# Altium schematic symbol library Capacitors - Ceramic - 01005.SchLib: 571 symbols (part 5 of 13)
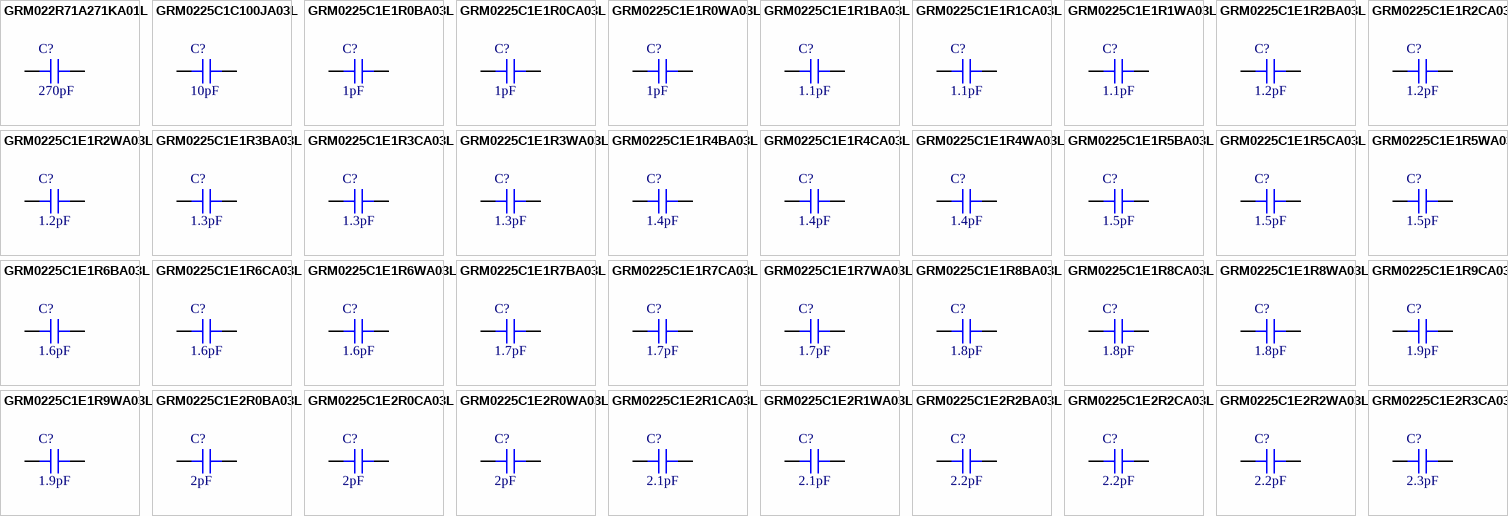
[diagram p18: symbols GRM022R71A271KA01L to GRM0225C1E2R3CA03L]

## GRM0225C1E1R9CA03L
designator C?, comment 1.9pF
CAP CER 1.9PF 25V C0G/NP0 01005; Part Number: GRM0225C1E1R9CA03L; Manufacturer: Murata Electronics; Temperature Coefficient: C0G, NP0; Tolerance: ±0.25pF; Value: 1.9pF; Applications: General Purpose; Capacitance: 1.9pF; ComponentLink1Description: Datasheet; ComponentLink1URL: https://search.murata.co.jp/Ceramy/image/img/A01X/G101/ENG/GRM0225C1E1R9CA03-01.pdf; ComponentLink2Description: DigiKey Link; ComponentLink2URL: http://digikey.com/product-detail/en/murata-electronics/GRM0225C1E1R9CA03L/490-13500-1-ND/6048242; Device Package: 01005 (0402 Metric); LastUpdated: 9/2/2020 1:27:44 AM; Lifecycle Status: Active; Minimum Order: 1; Mounting Type: Surface Mount, MLCC; Operating Temperature: -55°C ~ 125°C; Package / Case: 01005 (0402 Metric); Packaging: TapeAndReel; Part Status: Active; Price: 0.01; Series: GRM; Size / Dimension: 0.016" L x 0.008" W (0.40mm x 0.20mm); Supplier 1: DigiKey; Supplier Part Number 1: 490-13500-1-ND; Thickness (Max): 0.009" (0.22mm); Voltage - Rated: 25V
footprint CAP 01005_0402
pins: 1, 2

## GRM0225C1E1R9WA03L
designator C?, comment 1.9pF
CAP CER 1.9PF 25V C0G/NP0 01005; Part Number: GRM0225C1E1R9WA03L; Manufacturer: Murata Electronics; Temperature Coefficient: C0G, NP0; Tolerance: ±0.05pF; Value: 1.9pF; Applications: General Purpose; Capacitance: 1.9pF; ComponentLink1Description: Datasheet; ComponentLink1URL: https://search.murata.co.jp/Ceramy/image/img/A01X/G101/ENG/GRM0225C1E1R9WA03-01.pdf; ComponentLink2Description: DigiKey Link; ComponentLink2URL: http://digikey.com/product-detail/en/murata-electronics/GRM0225C1E1R9WA03L/490-13501-1-ND/6048243; Device Package: 01005 (0402 Metric); LastUpdated: 9/2/2020 1:27:42 AM; Lifecycle Status: Active; Minimum Order: 1; Mounting Type: Surface Mount, MLCC; Operating Temperature: -55°C ~ 125°C; Package / Case: 01005 (0402 Metric); Packaging: TapeAndReel; Part Status: Active; Price: 0.02; Series: GRM; Size / Dimension: 0.016" L x 0.008" W (0.40mm x 0.20mm); Supplier 1: DigiKey; Supplier Part Number 1: 490-13501-1-ND; Thickness (Max): 0.009" (0.22mm); Voltage - Rated: 25V
footprint CAP 01005_0402
pins: 1, 2

## GRM0225C1E2R0BA03L
designator C?, comment 2pF
CAP CER 2PF 25V C0G/NP0 01005; Part Number: GRM0225C1E2R0BA03L; Manufacturer: Murata Electronics; Temperature Coefficient: C0G, NP0; Tolerance: ±0.1pF; Value: 2pF; Applications: General Purpose; Capacitance: 2pF; ComponentLink1Description: Datasheet; ComponentLink1URL: https://search.murata.co.jp/Ceramy/image/img/A01X/G101/ENG/GRM0225C1E2R0BA03-01.pdf; ComponentLink2Description: DigiKey Link; ComponentLink2URL: http://digikey.com/product-detail/en/murata-electronics/GRM0225C1E2R0BA03L/490-13504-1-ND/6048246; Device Package: 01005 (0402 Metric); LastUpdated: 9/2/2020 1:27:44 AM; Lifecycle Status: Active; Minimum Order: 1; Mounting Type: Surface Mount, MLCC; Operating Temperature: -55°C ~ 125°C; Package / Case: 01005 (0402 Metric); Packaging: TapeAndReel; Part Status: Active; Price: 0.01; Series: GRM; Size / Dimension: 0.016" L x 0.008" W (0.40mm x 0.20mm); Supplier 1: DigiKey; Supplier Part Number 1: 490-13504-1-ND; Thickness (Max): 0.009" (0.22mm); Voltage - Rated: 25V
footprint CAP 01005_0402
pins: 1, 2

## GRM0225C1E2R0CA03L
designator C?, comment 2pF
CAP CER 2PF 25V C0G/NP0 01005; Part Number: GRM0225C1E2R0CA03L; Manufacturer: Murata Electronics; Temperature Coefficient: C0G, NP0; Tolerance: ±0.25pF; Value: 2pF; Applications: General Purpose; Capacitance: 2pF; ComponentLink1Description: Datasheet; ComponentLink1URL: https://search.murata.co.jp/Ceramy/image/img/A01X/G101/ENG/GRM0225C1E2R0CA03-01.pdf; ComponentLink2Description: DigiKey Link; ComponentLink2URL: http://digikey.com/product-detail/en/murata-electronics/GRM0225C1E2R0CA03L/490-13505-1-ND/6048247; Device Package: 01005 (0402 Metric); LastUpdated: 9/2/2020 1:27:44 AM; Lifecycle Status: Active; Minimum Order: 1; Mounting Type: Surface Mount, MLCC; Operating Temperature: -55°C ~ 125°C; Package / Case: 01005 (0402 Metric); Packaging: TapeAndReel; Part Status: Active; Price: 0.01; Series: GRM; Size / Dimension: 0.016" L x 0.008" W (0.40mm x 0.20mm); Supplier 1: DigiKey; Supplier Part Number 1: 490-13505-1-ND; Thickness (Max): 0.009" (0.22mm); Voltage - Rated: 25V
footprint CAP 01005_0402
pins: 1, 2

## GRM0225C1E2R0WA03L
designator C?, comment 2pF
CAP CER 2PF 25V C0G/NP0 01005; Part Number: GRM0225C1E2R0WA03L; Manufacturer: Murata Electronics; Temperature Coefficient: C0G, NP0; Tolerance: ±0.05pF; Value: 2pF; Applications: General Purpose; Capacitance: 2pF; ComponentLink1Description: Datasheet; ComponentLink1URL: https://search.murata.co.jp/Ceramy/image/img/A01X/G101/ENG/GRM0225C1E2R0WA03-01.pdf; ComponentLink2Description: DigiKey Link; ComponentLink2URL: http://digikey.com/product-detail/en/murata-electronics/GRM0225C1E2R0WA03L/490-13506-1-ND/6048248; Device Package: 01005 (0402 Metric); LastUpdated: 9/2/2020 1:27:42 AM; Lifecycle Status: Active; Minimum Order: 1; Mounting Type: Surface Mount, MLCC; Operating Temperature: -55°C ~ 125°C; Package / Case: 01005 (0402 Metric); Packaging: TapeAndReel; Part Status: Active; Price: 0.02; Series: GRM; Size / Dimension: 0.016" L x 0.008" W (0.40mm x 0.20mm); Supplier 1: DigiKey; Supplier Part Number 1: 490-13506-1-ND; Thickness (Max): 0.009" (0.22mm); Voltage - Rated: 25V
footprint CAP 01005_0402
pins: 1, 2

## GRM0225C1E2R1CA03L
designator C?, comment 2.1pF
CAP CER 2.1PF 25V C0G/NP0 01005; Part Number: GRM0225C1E2R1CA03L; Manufacturer: Murata Electronics; Temperature Coefficient: C0G, NP0; Tolerance: ±0.25pF; Value: 2.1pF; Applications: General Purpose; Capacitance: 2.1pF; ComponentLink1Description: Datasheet; ComponentLink1URL: https://search.murata.co.jp/Ceramy/image/img/A01X/G101/ENG/GRM0225C1E2R1CA03-01.pdf; ComponentLink2Description: DigiKey Link; ComponentLink2URL: http://digikey.com/product-detail/en/murata-electronics/GRM0225C1E2R1CA03L/490-13508-1-ND/6048250; Device Package: 01005 (0402 Metric); LastUpdated: 9/2/2020 1:27:44 AM; Lifecycle Status: Active; Minimum Order: 1; Mounting Type: Surface Mount, MLCC; Operating Temperature: -55°C ~ 125°C; Package / Case: 01005 (0402 Metric); Packaging: TapeAndReel; Part Status: Active; Price: 0.01; Series: GRM; Size / Dimension: 0.016" L x 0.008" W (0.40mm x 0.20mm); Supplier 1: DigiKey; Supplier Part Number 1: 490-13508-1-ND; Thickness (Max): 0.009" (0.22mm); Voltage - Rated: 25V
footprint CAP 01005_0402
pins: 1, 2

## GRM0225C1E2R1WA03L
designator C?, comment 2.1pF
CAP CER 2.1PF 25V C0G/NP0 01005; Part Number: GRM0225C1E2R1WA03L; Manufacturer: Murata Electronics; Temperature Coefficient: C0G, NP0; Tolerance: ±0.05pF; Value: 2.1pF; Applications: General Purpose; Capacitance: 2.1pF; ComponentLink1Description: Datasheet; ComponentLink1URL: https://www.murata.com/~/media/webrenewal/support/library/catalog/products/capacitor/mlcc/c02e.ashx?la=en-us; ComponentLink2Description: DigiKey Link; ComponentLink2URL: http://digikey.com/product-detail/en/murata-electronics/GRM0225C1E2R1WA03L/490-13509-1-ND/6048251; Device Package: 01005 (0402 Metric); LastUpdated: 9/2/2020 1:27:42 AM; Lifecycle Status: Active; Minimum Order: 1; Mounting Type: Surface Mount, MLCC; Operating Temperature: -55°C ~ 125°C; Package / Case: 01005 (0402 Metric); Packaging: TapeAndReel; Part Status: Active; Price: 0.02; Series: GRM; Size / Dimension: 0.016" L x 0.008" W (0.40mm x 0.20mm); Supplier 1: DigiKey; Supplier Part Number 1: 490-13509-1-ND; Thickness (Max): 0.009" (0.22mm); Voltage - Rated: 25V
footprint CAP 01005_0402
pins: 1, 2

## GRM0225C1E2R2BA03L
designator C?, comment 2.2pF
CAP CER 2.2PF 25V C0G/NP0 01005; Part Number: GRM0225C1E2R2BA03L; Manufacturer: Murata Electronics; Temperature Coefficient: C0G, NP0; Tolerance: ±0.1pF; Value: 2.2pF; Applications: General Purpose; Capacitance: 2.2pF; ComponentLink1Description: Datasheet; ComponentLink1URL: https://search.murata.co.jp/Ceramy/image/img/A01X/G101/ENG/GRM0225C1E2R2BA03-01.pdf; ComponentLink2Description: DigiKey Link; ComponentLink2URL: http://digikey.com/product-detail/en/murata-electronics/GRM0225C1E2R2BA03L/490-13510-1-ND/6048252; Device Package: 01005 (0402 Metric); LastUpdated: 9/2/2020 1:27:44 AM; Lifecycle Status: Active; Minimum Order: 1; Mounting Type: Surface Mount, MLCC; Operating Temperature: -55°C ~ 125°C; Package / Case: 01005 (0402 Metric); Packaging: TapeAndReel; Part Status: Active; Price: 0.01; Series: GRM; Size / Dimension: 0.016" L x 0.008" W (0.40mm x 0.20mm); Supplier 1: DigiKey; Supplier Part Number 1: 490-13510-1-ND; Thickness (Max): 0.009" (0.22mm); Voltage - Rated: 25V
footprint CAP 01005_0402
pins: 1, 2

## GRM0225C1E2R2CA03L
designator C?, comment 2.2pF
CAP CER 2.2PF 25V C0G/NP0 01005; Part Number: GRM0225C1E2R2CA03L; Manufacturer: Murata Electronics; Temperature Coefficient: C0G, NP0; Tolerance: ±0.25pF; Value: 2.2pF; Applications: General Purpose; Capacitance: 2.2pF; ComponentLink1Description: Datasheet; ComponentLink1URL: https://search.murata.co.jp/Ceramy/image/img/A01X/G101/ENG/GRM0225C1E2R2CA03-01.pdf; ComponentLink2Description: DigiKey Link; ComponentLink2URL: http://digikey.com/product-detail/en/murata-electronics/GRM0225C1E2R2CA03L/490-13511-1-ND/6048253; Device Package: 01005 (0402 Metric); LastUpdated: 9/2/2020 1:27:44 AM; Lifecycle Status: Active; Minimum Order: 1; Mounting Type: Surface Mount, MLCC; Operating Temperature: -55°C ~ 125°C; Package / Case: 01005 (0402 Metric); Packaging: TapeAndReel; Part Status: Active; Price: 0.01; Series: GRM; Size / Dimension: 0.016" L x 0.008" W (0.40mm x 0.20mm); Supplier 1: DigiKey; Supplier Part Number 1: 490-13511-1-ND; Thickness (Max): 0.009" (0.22mm); Voltage - Rated: 25V
footprint CAP 01005_0402
pins: 1, 2

## GRM0225C1E2R2WA03L
designator C?, comment 2.2pF
CAP CER 2.2PF 25V C0G/NP0 01005; Part Number: GRM0225C1E2R2WA03L; Manufacturer: Murata Electronics; Temperature Coefficient: C0G, NP0; Tolerance: ±0.05pF; Value: 2.2pF; Applications: General Purpose; Capacitance: 2.2pF; ComponentLink1Description: Datasheet; ComponentLink1URL: https://www.murata.com/~/media/webrenewal/support/library/catalog/products/capacitor/mlcc/c02e.ashx?la=en-us; ComponentLink2Description: DigiKey Link; ComponentLink2URL: http://digikey.com/product-detail/en/murata-electronics/GRM0225C1E2R2WA03L/490-13512-1-ND/6048254; Device Package: 01005 (0402 Metric); LastUpdated: 9/2/2020 1:27:42 AM; Lifecycle Status: Active; Minimum Order: 1; Mounting Type: Surface Mount, MLCC; Operating Temperature: -55°C ~ 125°C; Package / Case: 01005 (0402 Metric); Packaging: TapeAndReel; Part Status: Active; Price: 0.02; Series: GRM; Size / Dimension: 0.016" L x 0.008" W (0.40mm x 0.20mm); Supplier 1: DigiKey; Supplier Part Number 1: 490-13512-1-ND; Thickness (Max): 0.009" (0.22mm); Voltage - Rated: 25V
footprint CAP 01005_0402
pins: 1, 2

## GRM0225C1E2R3CA03L
designator C?, comment 2.3pF
CAP CER 2.3PF 25V C0G/NP0 01005; Part Number: GRM0225C1E2R3CA03L; Manufacturer: Murata Electronics; Temperature Coefficient: C0G, NP0; Tolerance: ±0.25pF; Value: 2.3pF; Applications: General Purpose; Capacitance: 2.3pF; ComponentLink1Description: Datasheet; ComponentLink1URL: https://search.murata.co.jp/Ceramy/image/img/A01X/G101/ENG/GRM0225C1E2R3CA03-01.pdf; ComponentLink2Description: DigiKey Link; ComponentLink2URL: http://digikey.com/product-detail/en/murata-electronics/GRM0225C1E2R3CA03L/490-13514-1-ND/6048256; Device Package: 01005 (0402 Metric); LastUpdated: 9/2/2020 1:27:44 AM; Lifecycle Status: Active; Minimum Order: 1; Mounting Type: Surface Mount, MLCC; Operating Temperature: -55°C ~ 125°C; Package / Case: 01005 (0402 Metric); Packaging: TapeAndReel; Part Status: Active; Price: 0.01; Series: GRM; Size / Dimension: 0.016" L x 0.008" W (0.40mm x 0.20mm); Supplier 1: DigiKey; Supplier Part Number 1: 490-13514-1-ND; Thickness (Max): 0.009" (0.22mm); Voltage - Rated: 25V
footprint CAP 01005_0402
pins: 1, 2

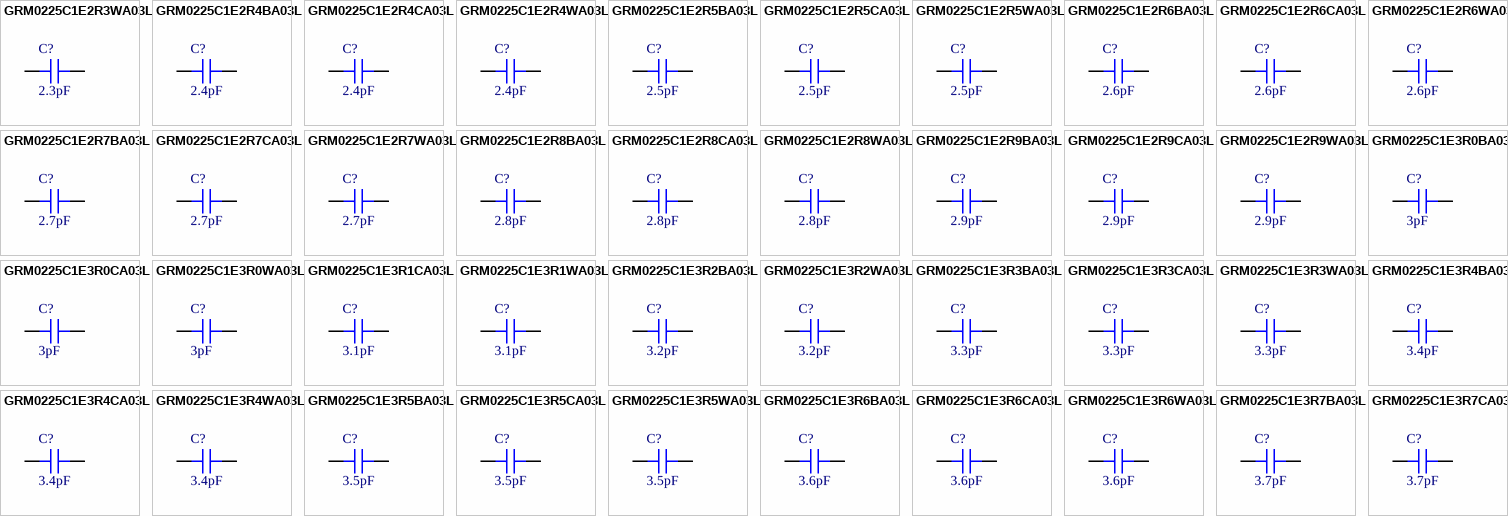
[diagram p5: symbols GRM0225C1E2R3WA03L to GRM0225C1E3R7CA03L]

## GRM0225C1E2R3WA03L
designator C?, comment 2.3pF
CAP CER 2.3PF 25V C0G/NP0 01005; Part Number: GRM0225C1E2R3WA03L; Manufacturer: Murata Electronics; Temperature Coefficient: C0G, NP0; Tolerance: ±0.05pF; Value: 2.3pF; Applications: General Purpose; Capacitance: 2.3pF; ComponentLink1Description: Datasheet; ComponentLink1URL: https://search.murata.co.jp/Ceramy/image/img/A01X/G101/ENG/GRM0225C1E2R3WA03-01.pdf; ComponentLink2Description: DigiKey Link; ComponentLink2URL: http://digikey.com/product-detail/en/murata-electronics/GRM0225C1E2R3WA03L/490-13515-1-ND/6048257; Device Package: 01005 (0402 Metric); LastUpdated: 9/2/2020 1:27:42 AM; Lifecycle Status: Active; Minimum Order: 1; Mounting Type: Surface Mount, MLCC; Operating Temperature: -55°C ~ 125°C; Package / Case: 01005 (0402 Metric); Packaging: TapeAndReel; Part Status: Active; Price: 0.02; Series: GRM; Size / Dimension: 0.016" L x 0.008" W (0.40mm x 0.20mm); Supplier 1: DigiKey; Supplier Part Number 1: 490-13515-1-ND; Thickness (Max): 0.009" (0.22mm); Voltage - Rated: 25V
footprint CAP 01005_0402
pins: 1, 2

## GRM0225C1E2R4BA03L
designator C?, comment 2.4pF
CAP CER 2.4PF 25V C0G/NP0 01005; Part Number: GRM0225C1E2R4BA03L; Manufacturer: Murata Electronics; Temperature Coefficient: C0G, NP0; Tolerance: ±0.1pF; Value: 2.4pF; Applications: General Purpose; Capacitance: 2.4pF; ComponentLink1Description: Datasheet; ComponentLink1URL: https://search.murata.co.jp/Ceramy/image/img/A01X/G101/ENG/GRM0225C1E2R4BA03-01.pdf; ComponentLink2Description: DigiKey Link; ComponentLink2URL: http://digikey.com/product-detail/en/murata-electronics/GRM0225C1E2R4BA03L/490-13516-1-ND/6048258; Device Package: 01005 (0402 Metric); LastUpdated: 9/2/2020 1:27:44 AM; Lifecycle Status: Active; Minimum Order: 1; Mounting Type: Surface Mount, MLCC; Operating Temperature: -55°C ~ 125°C; Package / Case: 01005 (0402 Metric); Packaging: TapeAndReel; Part Status: Active; Price: 0.01; Series: GRM; Size / Dimension: 0.016" L x 0.008" W (0.40mm x 0.20mm); Supplier 1: DigiKey; Supplier Part Number 1: 490-13516-1-ND; Thickness (Max): 0.009" (0.22mm); Voltage - Rated: 25V
footprint CAP 01005_0402
pins: 1, 2

## GRM0225C1E2R4CA03L
designator C?, comment 2.4pF
CAP CER 2.4PF 25V C0G/NP0 01005; Part Number: GRM0225C1E2R4CA03L; Manufacturer: Murata Electronics; Temperature Coefficient: C0G, NP0; Tolerance: ±0.25pF; Value: 2.4pF; Applications: General Purpose; Capacitance: 2.4pF; ComponentLink1Description: Datasheet; ComponentLink1URL: https://search.murata.co.jp/Ceramy/image/img/A01X/G101/ENG/GRM0225C1E2R4CA03-01.pdf; ComponentLink2Description: DigiKey Link; ComponentLink2URL: http://digikey.com/product-detail/en/murata-electronics/GRM0225C1E2R4CA03L/490-13517-1-ND/6048259; Device Package: 01005 (0402 Metric); LastUpdated: 9/2/2020 1:27:43 AM; Lifecycle Status: Active; Minimum Order: 1; Mounting Type: Surface Mount, MLCC; Operating Temperature: -55°C ~ 125°C; Package / Case: 01005 (0402 Metric); Packaging: TapeAndReel; Part Status: Active; Price: 0.01; Series: GRM; Size / Dimension: 0.016" L x 0.008" W (0.40mm x 0.20mm); Supplier 1: DigiKey; Supplier Part Number 1: 490-13517-1-ND; Thickness (Max): 0.009" (0.22mm); Voltage - Rated: 25V
footprint CAP 01005_0402
pins: 1, 2

## GRM0225C1E2R4WA03L
designator C?, comment 2.4pF
CAP CER 2.4PF 25V C0G/NP0 01005; Part Number: GRM0225C1E2R4WA03L; Manufacturer: Murata Electronics; Temperature Coefficient: C0G, NP0; Tolerance: ±0.05pF; Value: 2.4pF; Applications: General Purpose; Capacitance: 2.4pF; ComponentLink1Description: Datasheet; ComponentLink1URL: https://search.murata.co.jp/Ceramy/image/img/A01X/G101/ENG/GRM0225C1E2R4WA03-01.pdf; ComponentLink2Description: DigiKey Link; ComponentLink2URL: http://digikey.com/product-detail/en/murata-electronics/GRM0225C1E2R4WA03L/490-13518-1-ND/6048260; Device Package: 01005 (0402 Metric); LastUpdated: 9/2/2020 1:27:42 AM; Lifecycle Status: Active; Minimum Order: 1; Mounting Type: Surface Mount, MLCC; Operating Temperature: -55°C ~ 125°C; Package / Case: 01005 (0402 Metric); Packaging: TapeAndReel; Part Status: Active; Price: 0.02; Series: GRM; Size / Dimension: 0.016" L x 0.008" W (0.40mm x 0.20mm); Supplier 1: DigiKey; Supplier Part Number 1: 490-13518-1-ND; Thickness (Max): 0.009" (0.22mm); Voltage - Rated: 25V
footprint CAP 01005_0402
pins: 1, 2

## GRM0225C1E2R5BA03L
designator C?, comment 2.5pF
CAP CER 2.5PF 25V C0G/NP0 01005; Part Number: GRM0225C1E2R5BA03L; Manufacturer: Murata Electronics; Temperature Coefficient: C0G, NP0; Tolerance: ±0.1pF; Value: 2.5pF; Applications: General Purpose; Capacitance: 2.5pF; ComponentLink1Description: Datasheet; ComponentLink1URL: https://search.murata.co.jp/Ceramy/image/img/A01X/G101/ENG/GRM0225C1E2R5BA03-01.pdf; ComponentLink2Description: DigiKey Link; ComponentLink2URL: http://digikey.com/product-detail/en/murata-electronics/GRM0225C1E2R5BA03L/490-13519-1-ND/6048261; Device Package: 01005 (0402 Metric); LastUpdated: 9/2/2020 1:27:44 AM; Lifecycle Status: Active; Minimum Order: 1; Mounting Type: Surface Mount, MLCC; Operating Temperature: -55°C ~ 125°C; Package / Case: 01005 (0402 Metric); Packaging: TapeAndReel; Part Status: Active; Price: 0.01; Series: GRM; Size / Dimension: 0.016" L x 0.008" W (0.40mm x 0.20mm); Supplier 1: DigiKey; Supplier Part Number 1: 490-13519-1-ND; Thickness (Max): 0.009" (0.22mm); Voltage - Rated: 25V
footprint CAP 01005_0402
pins: 1, 2

## GRM0225C1E2R5CA03L
designator C?, comment 2.5pF
CAP CER 2.5PF 25V C0G/NP0 01005; Part Number: GRM0225C1E2R5CA03L; Manufacturer: Murata Electronics; Temperature Coefficient: C0G, NP0; Tolerance: ±0.25pF; Value: 2.5pF; Applications: General Purpose; Capacitance: 2.5pF; ComponentLink1Description: Datasheet; ComponentLink1URL: https://search.murata.co.jp/Ceramy/image/img/A01X/G101/ENG/GRM0225C1E2R5CA03-01.pdf; ComponentLink2Description: DigiKey Link; ComponentLink2URL: http://digikey.com/product-detail/en/murata-electronics/GRM0225C1E2R5CA03L/490-13520-1-ND/6048262; Device Package: 01005 (0402 Metric); LastUpdated: 9/2/2020 1:27:44 AM; Lifecycle Status: Active; Minimum Order: 1; Mounting Type: Surface Mount, MLCC; Operating Temperature: -55°C ~ 125°C; Package / Case: 01005 (0402 Metric); Packaging: TapeAndReel; Part Status: Active; Price: 0.01; Series: GRM; Size / Dimension: 0.016" L x 0.008" W (0.40mm x 0.20mm); Supplier 1: DigiKey; Supplier Part Number 1: 490-13520-1-ND; Thickness (Max): 0.009" (0.22mm); Voltage - Rated: 25V
footprint CAP 01005_0402
pins: 1, 2

## GRM0225C1E2R5WA03L
designator C?, comment 2.5pF
CAP CER 2.5PF 25V C0G/NP0 01005; Part Number: GRM0225C1E2R5WA03L; Manufacturer: Murata Electronics; Temperature Coefficient: C0G, NP0; Tolerance: ±0.05pF; Value: 2.5pF; Applications: General Purpose; Capacitance: 2.5pF; ComponentLink1Description: Datasheet; ComponentLink1URL: https://search.murata.co.jp/Ceramy/image/img/A01X/G101/ENG/GRM0225C1E2R5WA03-01.pdf; ComponentLink2Description: DigiKey Link; ComponentLink2URL: http://digikey.com/product-detail/en/murata-electronics/GRM0225C1E2R5WA03L/490-13521-1-ND/6048263; Device Package: 01005 (0402 Metric); LastUpdated: 9/2/2020 1:27:42 AM; Lifecycle Status: Active; Minimum Order: 1; Mounting Type: Surface Mount, MLCC; Operating Temperature: -55°C ~ 125°C; Package / Case: 01005 (0402 Metric); Packaging: TapeAndReel; Part Status: Active; Price: 0.02; Series: GRM; Size / Dimension: 0.016" L x 0.008" W (0.40mm x 0.20mm); Supplier 1: DigiKey; Supplier Part Number 1: 490-13521-1-ND; Thickness (Max): 0.009" (0.22mm); Voltage - Rated: 25V
footprint CAP 01005_0402
pins: 1, 2

## GRM0225C1E2R6BA03L
designator C?, comment 2.6pF
CAP CER 2.6PF 25V C0G/NP0 01005; Part Number: GRM0225C1E2R6BA03L; Manufacturer: Murata Electronics; Temperature Coefficient: C0G, NP0; Tolerance: ±0.1pF; Value: 2.6pF; Applications: General Purpose; Capacitance: 2.6pF; ComponentLink1Description: Datasheet; ComponentLink1URL: https://search.murata.co.jp/Ceramy/image/img/A01X/G101/ENG/GRM0225C1E2R6BA03-01.pdf; ComponentLink2Description: DigiKey Link; ComponentLink2URL: http://digikey.com/product-detail/en/murata-electronics/GRM0225C1E2R6BA03L/490-13522-1-ND/6048264; Device Package: 01005 (0402 Metric); LastUpdated: 9/2/2020 1:27:44 AM; Lifecycle Status: Active; Minimum Order: 1; Mounting Type: Surface Mount, MLCC; Operating Temperature: -55°C ~ 125°C; Package / Case: 01005 (0402 Metric); Packaging: TapeAndReel; Part Status: Active; Price: 0.01; Series: GRM; Size / Dimension: 0.016" L x 0.008" W (0.40mm x 0.20mm); Supplier 1: DigiKey; Supplier Part Number 1: 490-13522-1-ND; Thickness (Max): 0.009" (0.22mm); Voltage - Rated: 25V
footprint CAP 01005_0402
pins: 1, 2

## GRM0225C1E2R6CA03L
designator C?, comment 2.6pF
CAP CER 2.6PF 25V C0G/NP0 01005; Part Number: GRM0225C1E2R6CA03L; Manufacturer: Murata Electronics; Temperature Coefficient: C0G, NP0; Tolerance: ±0.25pF; Value: 2.6pF; Applications: General Purpose; Capacitance: 2.6pF; ComponentLink1Description: Datasheet; ComponentLink1URL: https://search.murata.co.jp/Ceramy/image/img/A01X/G101/ENG/GRM0225C1E2R6CA03-01.pdf; ComponentLink2Description: DigiKey Link; ComponentLink2URL: http://digikey.com/product-detail/en/murata-electronics/GRM0225C1E2R6CA03L/490-13523-1-ND/6048265; Device Package: 01005 (0402 Metric); LastUpdated: 9/2/2020 1:27:44 AM; Lifecycle Status: Active; Minimum Order: 1; Mounting Type: Surface Mount, MLCC; Operating Temperature: -55°C ~ 125°C; Package / Case: 01005 (0402 Metric); Packaging: TapeAndReel; Part Status: Active; Price: 0.01; Series: GRM; Size / Dimension: 0.016" L x 0.008" W (0.40mm x 0.20mm); Supplier 1: DigiKey; Supplier Part Number 1: 490-13523-1-ND; Thickness (Max): 0.009" (0.22mm); Voltage - Rated: 25V
footprint CAP 01005_0402
pins: 1, 2

## GRM0225C1E2R6WA03L
designator C?, comment 2.6pF
CAP CER 2.6PF 25V C0G/NP0 01005; Part Number: GRM0225C1E2R6WA03L; Manufacturer: Murata Electronics; Temperature Coefficient: C0G, NP0; Tolerance: ±0.05pF; Value: 2.6pF; Applications: General Purpose; Capacitance: 2.6pF; ComponentLink1Description: Datasheet; ComponentLink1URL: https://search.murata.co.jp/Ceramy/image/img/A01X/G101/ENG/GRM0225C1E2R6WA03-01.pdf; ComponentLink2Description: DigiKey Link; ComponentLink2URL: http://digikey.com/product-detail/en/murata-electronics/GRM0225C1E2R6WA03L/490-13524-1-ND/6048266; Device Package: 01005 (0402 Metric); LastUpdated: 9/2/2020 1:27:42 AM; Lifecycle Status: Active; Minimum Order: 1; Mounting Type: Surface Mount, MLCC; Operating Temperature: -55°C ~ 125°C; Package / Case: 01005 (0402 Metric); Packaging: TapeAndReel; Part Status: Active; Price: 0.02; Series: GRM; Size / Dimension: 0.016" L x 0.008" W (0.40mm x 0.20mm); Supplier 1: DigiKey; Supplier Part Number 1: 490-13524-1-ND; Thickness (Max): 0.009" (0.22mm); Voltage - Rated: 25V
footprint CAP 01005_0402
pins: 1, 2

## GRM0225C1E2R7BA03L
designator C?, comment 2.7pF
CAP CER 2.7PF 25V C0G/NP0 01005; Part Number: GRM0225C1E2R7BA03L; Manufacturer: Murata Electronics; Temperature Coefficient: C0G, NP0; Tolerance: ±0.1pF; Value: 2.7pF; Applications: General Purpose; Capacitance: 2.7pF; ComponentLink1Description: Datasheet; ComponentLink1URL: https://www.murata.com/~/media/webrenewal/support/library/catalog/products/capacitor/mlcc/c02e.ashx?la=en-us; ComponentLink2Description: DigiKey Link; ComponentLink2URL: http://digikey.com/product-detail/en/murata-electronics/GRM0225C1E2R7BA03L/490-13525-1-ND/6048267; Device Package: 01005 (0402 Metric); LastUpdated: 9/2/2020 1:27:43 AM; Lifecycle Status: Active; Minimum Order: 1; Mounting Type: Surface Mount, MLCC; Operating Temperature: -55°C ~ 125°C; Package / Case: 01005 (0402 Metric); Packaging: TapeAndReel; Part Status: Active; Price: 0.01; Series: GRM; Size / Dimension: 0.016" L x 0.008" W (0.40mm x 0.20mm); Supplier 1: DigiKey; Supplier Part Number 1: 490-13525-1-ND; Thickness (Max): 0.009" (0.22mm); Voltage - Rated: 25V
footprint CAP 01005_0402
pins: 1, 2

## GRM0225C1E2R7CA03L
designator C?, comment 2.7pF
CAP CER 2.7PF 25V C0G/NP0 01005; Part Number: GRM0225C1E2R7CA03L; Manufacturer: Murata Electronics; Temperature Coefficient: C0G, NP0; Tolerance: ±0.25pF; Value: 2.7pF; Applications: General Purpose; Capacitance: 2.7pF; ComponentLink1Description: Datasheet; ComponentLink1URL: https://search.murata.co.jp/Ceramy/image/img/A01X/G101/ENG/GRM0225C1E2R7CA03-01.pdf; ComponentLink2Description: DigiKey Link; ComponentLink2URL: http://digikey.com/product-detail/en/murata-electronics/GRM0225C1E2R7CA03L/490-13526-1-ND/6048268; Device Package: 01005 (0402 Metric); LastUpdated: 9/2/2020 1:27:44 AM; Lifecycle Status: Active; Minimum Order: 1; Mounting Type: Surface Mount, MLCC; Operating Temperature: -55°C ~ 125°C; Package / Case: 01005 (0402 Metric); Packaging: TapeAndReel; Part Status: Active; Price: 0.01; Series: GRM; Size / Dimension: 0.016" L x 0.008" W (0.40mm x 0.20mm); Supplier 1: DigiKey; Supplier Part Number 1: 490-13526-1-ND; Thickness (Max): 0.009" (0.22mm); Voltage - Rated: 25V
footprint CAP 01005_0402
pins: 1, 2

## GRM0225C1E2R7WA03L
designator C?, comment 2.7pF
CAP CER 2.7PF 25V C0G/NP0 01005; Part Number: GRM0225C1E2R7WA03L; Manufacturer: Murata Electronics; Temperature Coefficient: C0G, NP0; Tolerance: ±0.05pF; Value: 2.7pF; Applications: General Purpose; Capacitance: 2.7pF; ComponentLink1Description: Datasheet; ComponentLink1URL: https://search.murata.co.jp/Ceramy/image/img/A01X/G101/ENG/GRM0225C1E2R7WA03-01.pdf; ComponentLink2Description: DigiKey Link; ComponentLink2URL: http://digikey.com/product-detail/en/murata-electronics/GRM0225C1E2R7WA03L/490-13527-1-ND/6048269; Device Package: 01005 (0402 Metric); LastUpdated: 9/2/2020 1:27:42 AM; Lifecycle Status: Active; Minimum Order: 1; Mounting Type: Surface Mount, MLCC; Operating Temperature: -55°C ~ 125°C; Package / Case: 01005 (0402 Metric); Packaging: TapeAndReel; Part Status: Active; Price: 0.02; Series: GRM; Size / Dimension: 0.016" L x 0.008" W (0.40mm x 0.20mm); Supplier 1: DigiKey; Supplier Part Number 1: 490-13527-1-ND; Thickness (Max): 0.009" (0.22mm); Voltage - Rated: 25V
footprint CAP 01005_0402
pins: 1, 2

## GRM0225C1E2R8BA03L
designator C?, comment 2.8pF
CAP CER 2.8PF 25V C0G/NP0 01005; Part Number: GRM0225C1E2R8BA03L; Manufacturer: Murata Electronics; Temperature Coefficient: C0G, NP0; Tolerance: ±0.1pF; Value: 2.8pF; Applications: General Purpose; Capacitance: 2.8pF; ComponentLink1Description: Datasheet; ComponentLink1URL: https://search.murata.co.jp/Ceramy/image/img/A01X/G101/ENG/GRM0225C1E2R8BA03-01.pdf; ComponentLink2Description: DigiKey Link; ComponentLink2URL: http://digikey.com/product-detail/en/murata-electronics/GRM0225C1E2R8BA03L/490-13528-1-ND/6048270; Device Package: 01005 (0402 Metric); LastUpdated: 9/2/2020 1:27:44 AM; Lifecycle Status: Active; Minimum Order: 1; Mounting Type: Surface Mount, MLCC; Operating Temperature: -55°C ~ 125°C; Package / Case: 01005 (0402 Metric); Packaging: TapeAndReel; Part Status: Active; Price: 0.01; Series: GRM; Size / Dimension: 0.016" L x 0.008" W (0.40mm x 0.20mm); Supplier 1: DigiKey; Supplier Part Number 1: 490-13528-1-ND; Thickness (Max): 0.009" (0.22mm); Voltage - Rated: 25V
footprint CAP 01005_0402
pins: 1, 2

## GRM0225C1E2R8CA03L
designator C?, comment 2.8pF
CAP CER 2.8PF 25V C0G/NP0 01005; Part Number: GRM0225C1E2R8CA03L; Manufacturer: Murata Electronics; Temperature Coefficient: C0G, NP0; Tolerance: ±0.25pF; Value: 2.8pF; Applications: General Purpose; Capacitance: 2.8pF; ComponentLink1Description: Datasheet; ComponentLink1URL: https://search.murata.co.jp/Ceramy/image/img/A01X/G101/ENG/GRM0225C1E2R8CA03-01.pdf; ComponentLink2Description: DigiKey Link; ComponentLink2URL: http://digikey.com/product-detail/en/murata-electronics/GRM0225C1E2R8CA03L/490-13529-1-ND/6048271; Device Package: 01005 (0402 Metric); LastUpdated: 9/2/2020 1:27:44 AM; Lifecycle Status: Active; Minimum Order: 1; Mounting Type: Surface Mount, MLCC; Operating Temperature: -55°C ~ 125°C; Package / Case: 01005 (0402 Metric); Packaging: TapeAndReel; Part Status: Active; Price: 0.01; Series: GRM; Size / Dimension: 0.016" L x 0.008" W (0.40mm x 0.20mm); Supplier 1: DigiKey; Supplier Part Number 1: 490-13529-1-ND; Thickness (Max): 0.009" (0.22mm); Voltage - Rated: 25V
footprint CAP 01005_0402
pins: 1, 2

## GRM0225C1E2R8WA03L
designator C?, comment 2.8pF
CAP CER 2.8PF 25V C0G/NP0 01005; Part Number: GRM0225C1E2R8WA03L; Manufacturer: Murata Electronics; Temperature Coefficient: C0G, NP0; Tolerance: ±0.05pF; Value: 2.8pF; Applications: General Purpose; Capacitance: 2.8pF; ComponentLink1Description: Datasheet; ComponentLink1URL: https://search.murata.co.jp/Ceramy/image/img/A01X/G101/ENG/GRM0225C1E2R8WA03-01.pdf; ComponentLink2Description: DigiKey Link; ComponentLink2URL: http://digikey.com/product-detail/en/murata-electronics/GRM0225C1E2R8WA03L/490-13530-1-ND/6048272; Device Package: 01005 (0402 Metric); LastUpdated: 9/2/2020 1:27:42 AM; Lifecycle Status: Active; Minimum Order: 1; Mounting Type: Surface Mount, MLCC; Operating Temperature: -55°C ~ 125°C; Package / Case: 01005 (0402 Metric); Packaging: TapeAndReel; Part Status: Active; Price: 0.02; Series: GRM; Size / Dimension: 0.016" L x 0.008" W (0.40mm x 0.20mm); Supplier 1: DigiKey; Supplier Part Number 1: 490-13530-1-ND; Thickness (Max): 0.009" (0.22mm); Voltage - Rated: 25V
footprint CAP 01005_0402
pins: 1, 2

## GRM0225C1E2R9BA03L
designator C?, comment 2.9pF
CAP CER 2.9PF 25V C0G/NP0 01005; Part Number: GRM0225C1E2R9BA03L; Manufacturer: Murata Electronics; Temperature Coefficient: C0G, NP0; Tolerance: ±0.1pF; Value: 2.9pF; Applications: General Purpose; Capacitance: 2.9pF; ComponentLink1Description: Datasheet; ComponentLink1URL: https://search.murata.co.jp/Ceramy/image/img/A01X/G101/ENG/GRM0225C1E2R9BA03-01.pdf; ComponentLink2Description: DigiKey Link; ComponentLink2URL: http://digikey.com/product-detail/en/murata-electronics/GRM0225C1E2R9BA03L/490-13531-1-ND/6048273; Device Package: 01005 (0402 Metric); LastUpdated: 9/2/2020 1:27:44 AM; Lifecycle Status: Active; Minimum Order: 1; Mounting Type: Surface Mount, MLCC; Operating Temperature: -55°C ~ 125°C; Package / Case: 01005 (0402 Metric); Packaging: TapeAndReel; Part Status: Active; Price: 0.01; Series: GRM; Size / Dimension: 0.016" L x 0.008" W (0.40mm x 0.20mm); Supplier 1: DigiKey; Supplier Part Number 1: 490-13531-1-ND; Thickness (Max): 0.009" (0.22mm); Voltage - Rated: 25V
footprint CAP 01005_0402
pins: 1, 2

## GRM0225C1E2R9CA03L
designator C?, comment 2.9pF
CAP CER 2.9PF 25V C0G/NP0 01005; Part Number: GRM0225C1E2R9CA03L; Manufacturer: Murata Electronics; Temperature Coefficient: C0G, NP0; Tolerance: ±0.25pF; Value: 2.9pF; Applications: General Purpose; Capacitance: 2.9pF; ComponentLink1Description: Datasheet; ComponentLink1URL: https://search.murata.co.jp/Ceramy/image/img/A01X/G101/ENG/GRM0225C1E2R9CA03-01.pdf; ComponentLink2Description: DigiKey Link; ComponentLink2URL: http://digikey.com/product-detail/en/murata-electronics/GRM0225C1E2R9CA03L/490-13532-1-ND/6048274; Device Package: 01005 (0402 Metric); LastUpdated: 9/2/2020 1:27:44 AM; Lifecycle Status: Active; Minimum Order: 1; Mounting Type: Surface Mount, MLCC; Operating Temperature: -55°C ~ 125°C; Package / Case: 01005 (0402 Metric); Packaging: TapeAndReel; Part Status: Active; Price: 0.01; Series: GRM; Size / Dimension: 0.016" L x 0.008" W (0.40mm x 0.20mm); Supplier 1: DigiKey; Supplier Part Number 1: 490-13532-1-ND; Thickness (Max): 0.009" (0.22mm); Voltage - Rated: 25V
footprint CAP 01005_0402
pins: 1, 2

## GRM0225C1E2R9WA03L
designator C?, comment 2.9pF
CAP CER 2.9PF 25V C0G/NP0 01005; Part Number: GRM0225C1E2R9WA03L; Manufacturer: Murata Electronics; Temperature Coefficient: C0G, NP0; Tolerance: ±0.05pF; Value: 2.9pF; Applications: General Purpose; Capacitance: 2.9pF; ComponentLink1Description: Datasheet; ComponentLink1URL: https://www.murata.com/~/media/webrenewal/support/library/catalog/products/capacitor/mlcc/c02e.ashx?la=en-us; ComponentLink2Description: DigiKey Link; ComponentLink2URL: http://digikey.com/product-detail/en/murata-electronics/GRM0225C1E2R9WA03L/490-13533-1-ND/6048275; Device Package: 01005 (0402 Metric); LastUpdated: 9/2/2020 1:27:42 AM; Lifecycle Status: Active; Minimum Order: 1; Mounting Type: Surface Mount, MLCC; Operating Temperature: -55°C ~ 125°C; Package / Case: 01005 (0402 Metric); Packaging: TapeAndReel; Part Status: Active; Price: 0.02; Series: GRM; Size / Dimension: 0.016" L x 0.008" W (0.40mm x 0.20mm); Supplier 1: DigiKey; Supplier Part Number 1: 490-13533-1-ND; Thickness (Max): 0.009" (0.22mm); Voltage - Rated: 25V
footprint CAP 01005_0402
pins: 1, 2

## GRM0225C1E3R0BA03L
designator C?, comment 3pF
CAP CER 3PF 25V C0G/NP0 01005; Part Number: GRM0225C1E3R0BA03L; Manufacturer: Murata Electronics; Temperature Coefficient: C0G, NP0; Tolerance: ±0.1pF; Value: 3pF; Applications: General Purpose; Capacitance: 3pF; ComponentLink1Description: Datasheet; ComponentLink1URL: https://search.murata.co.jp/Ceramy/image/img/A01X/G101/ENG/GRM0225C1E3R0BA03-01.pdf; ComponentLink2Description: DigiKey Link; ComponentLink2URL: http://digikey.com/product-detail/en/murata-electronics/GRM0225C1E3R0BA03L/490-13534-1-ND/6048276; Device Package: 01005 (0402 Metric); LastUpdated: 9/2/2020 1:27:44 AM; Lifecycle Status: Active; Minimum Order: 1; Mounting Type: Surface Mount, MLCC; Operating Temperature: -55°C ~ 125°C; Package / Case: 01005 (0402 Metric); Packaging: TapeAndReel; Part Status: Active; Price: 0.01; Series: GRM; Size / Dimension: 0.016" L x 0.008" W (0.40mm x 0.20mm); Supplier 1: DigiKey; Supplier Part Number 1: 490-13534-1-ND; Thickness (Max): 0.009" (0.22mm); Voltage - Rated: 25V
footprint CAP 01005_0402
pins: 1, 2

## GRM0225C1E3R0CA03L
designator C?, comment 3pF
CAP CER 3PF 25V C0G/NP0 01005; Part Number: GRM0225C1E3R0CA03L; Manufacturer: Murata Electronics; Temperature Coefficient: C0G, NP0; Tolerance: ±0.25pF; Value: 3pF; Applications: General Purpose; Capacitance: 3pF; ComponentLink1Description: Datasheet; ComponentLink1URL: https://search.murata.co.jp/Ceramy/image/img/A01X/G101/ENG/GRM0225C1E3R0CA03-01.pdf; ComponentLink2Description: DigiKey Link; ComponentLink2URL: http://digikey.com/product-detail/en/murata-electronics/GRM0225C1E3R0CA03L/490-13535-1-ND/6048277; Device Package: 01005 (0402 Metric); LastUpdated: 9/2/2020 1:27:42 AM; Lifecycle Status: Active; Minimum Order: 1; Mounting Type: Surface Mount, MLCC; Operating Temperature: -55°C ~ 125°C; Package / Case: 01005 (0402 Metric); Packaging: TapeAndReel; Part Status: Active; Price: 0.01; Series: GRM; Size / Dimension: 0.016" L x 0.008" W (0.40mm x 0.20mm); Supplier 1: DigiKey; Supplier Part Number 1: 490-13535-1-ND; Thickness (Max): 0.009" (0.22mm); Voltage - Rated: 25V
footprint CAP 01005_0402
pins: 1, 2

## GRM0225C1E3R0WA03L
designator C?, comment 3pF
CAP CER 3PF 25V C0G/NP0 01005; Part Number: GRM0225C1E3R0WA03L; Manufacturer: Murata Electronics; Temperature Coefficient: C0G, NP0; Tolerance: ±0.05pF; Value: 3pF; Applications: General Purpose; Capacitance: 3pF; ComponentLink1Description: Datasheet; ComponentLink1URL: https://search.murata.co.jp/Ceramy/image/img/A01X/G101/ENG/GRM0225C1E3R0WA03-01.pdf; ComponentLink2Description: DigiKey Link; ComponentLink2URL: http://digikey.com/product-detail/en/murata-electronics/GRM0225C1E3R0WA03L/490-13536-1-ND/6048278; Device Package: 01005 (0402 Metric); LastUpdated: 9/2/2020 1:27:42 AM; Lifecycle Status: Active; Minimum Order: 1; Mounting Type: Surface Mount, MLCC; Operating Temperature: -55°C ~ 125°C; Package / Case: 01005 (0402 Metric); Packaging: TapeAndReel; Part Status: Active; Price: 0.02; Series: GRM; Size / Dimension: 0.016" L x 0.008" W (0.40mm x 0.20mm); Supplier 1: DigiKey; Supplier Part Number 1: 490-13536-1-ND; Thickness (Max): 0.009" (0.22mm); Voltage - Rated: 25V
footprint CAP 01005_0402
pins: 1, 2

## GRM0225C1E3R1CA03L
designator C?, comment 3.1pF
CAP CER 3.1PF 25V C0G/NP0 01005; Part Number: GRM0225C1E3R1CA03L; Manufacturer: Murata Electronics; Temperature Coefficient: C0G, NP0; Tolerance: ±0.25pF; Value: 3.1pF; Applications: General Purpose; Capacitance: 3.1pF; ComponentLink1Description: Datasheet; ComponentLink1URL: https://search.murata.co.jp/Ceramy/image/img/A01X/G101/ENG/GRM0225C1E3R1CA03-01.pdf; ComponentLink2Description: DigiKey Link; ComponentLink2URL: http://digikey.com/product-detail/en/murata-electronics/GRM0225C1E3R1CA03L/490-13538-1-ND/6048280; Device Package: 01005 (0402 Metric); LastUpdated: 9/2/2020 1:27:44 AM; Lifecycle Status: Active; Minimum Order: 1; Mounting Type: Surface Mount, MLCC; Operating Temperature: -55°C ~ 125°C; Package / Case: 01005 (0402 Metric); Packaging: TapeAndReel; Part Status: Active; Price: 0.01; Series: GRM; Size / Dimension: 0.016" L x 0.008" W (0.40mm x 0.20mm); Supplier 1: DigiKey; Supplier Part Number 1: 490-13538-1-ND; Thickness (Max): 0.009" (0.22mm); Voltage - Rated: 25V
footprint CAP 01005_0402
pins: 1, 2

## GRM0225C1E3R1WA03L
designator C?, comment 3.1pF
CAP CER 3.1PF 25V C0G/NP0 01005; Part Number: GRM0225C1E3R1WA03L; Manufacturer: Murata Electronics; Temperature Coefficient: C0G, NP0; Tolerance: ±0.05pF; Value: 3.1pF; Applications: General Purpose; Capacitance: 3.1pF; ComponentLink1Description: Datasheet; ComponentLink1URL: https://search.murata.co.jp/Ceramy/image/img/A01X/G101/ENG/GRM0225C1E3R1WA03-01.pdf; ComponentLink2Description: DigiKey Link; ComponentLink2URL: http://digikey.com/product-detail/en/murata-electronics/GRM0225C1E3R1WA03L/490-13539-1-ND/6048281; Device Package: 01005 (0402 Metric); LastUpdated: 9/2/2020 1:27:42 AM; Lifecycle Status: Active; Minimum Order: 1; Mounting Type: Surface Mount, MLCC; Operating Temperature: -55°C ~ 125°C; Package / Case: 01005 (0402 Metric); Packaging: TapeAndReel; Part Status: Active; Price: 0.02; Series: GRM; Size / Dimension: 0.016" L x 0.008" W (0.40mm x 0.20mm); Supplier 1: DigiKey; Supplier Part Number 1: 490-13539-1-ND; Thickness (Max): 0.009" (0.22mm); Voltage - Rated: 25V
footprint CAP 01005_0402
pins: 1, 2

## GRM0225C1E3R2BA03L
designator C?, comment 3.2pF
CAP CER 3.2PF 25V C0G/NP0 01005; Part Number: GRM0225C1E3R2BA03L; Manufacturer: Murata Electronics; Temperature Coefficient: C0G, NP0; Tolerance: ±0.1pF; Value: 3.2pF; Applications: General Purpose; Capacitance: 3.2pF; ComponentLink1Description: Datasheet; ComponentLink1URL: https://www.murata.com/~/media/webrenewal/support/library/catalog/products/capacitor/mlcc/c02e.ashx?la=en-us; ComponentLink2Description: DigiKey Link; ComponentLink2URL: http://digikey.com/product-detail/en/murata-electronics/GRM0225C1E3R2BA03L/490-13540-1-ND/6048282; Device Package: 01005 (0402 Metric); LastUpdated: 9/2/2020 1:27:44 AM; Lifecycle Status: Active; Minimum Order: 1; Mounting Type: Surface Mount, MLCC; Operating Temperature: -55°C ~ 125°C; Package / Case: 01005 (0402 Metric); Packaging: TapeAndReel; Part Status: Active; Price: 0.01; Series: GRM; Size / Dimension: 0.016" L x 0.008" W (0.40mm x 0.20mm); Supplier 1: DigiKey; Supplier Part Number 1: 490-13540-1-ND; Thickness (Max): 0.009" (0.22mm); Voltage - Rated: 25V
footprint CAP 01005_0402
pins: 1, 2

## GRM0225C1E3R2WA03L
designator C?, comment 3.2pF
CAP CER 3.2PF 25V C0G/NP0 01005; Part Number: GRM0225C1E3R2WA03L; Manufacturer: Murata Electronics; Temperature Coefficient: C0G, NP0; Tolerance: ±0.05pF; Value: 3.2pF; Applications: General Purpose; Capacitance: 3.2pF; ComponentLink1Description: Datasheet; ComponentLink1URL: https://search.murata.co.jp/Ceramy/image/img/A01X/G101/ENG/GRM0225C1E3R2WA03-01.pdf; ComponentLink2Description: DigiKey Link; ComponentLink2URL: http://digikey.com/product-detail/en/murata-electronics/GRM0225C1E3R2WA03L/490-13542-1-ND/6048284; Device Package: 01005 (0402 Metric); LastUpdated: 9/2/2020 1:27:42 AM; Lifecycle Status: Active; Minimum Order: 1; Mounting Type: Surface Mount, MLCC; Operating Temperature: -55°C ~ 125°C; Package / Case: 01005 (0402 Metric); Packaging: TapeAndReel; Part Status: Active; Price: 0.02; Series: GRM; Size / Dimension: 0.016" L x 0.008" W (0.40mm x 0.20mm); Supplier 1: DigiKey; Supplier Part Number 1: 490-13542-1-ND; Thickness (Max): 0.009" (0.22mm); Voltage - Rated: 25V
footprint CAP 01005_0402
pins: 1, 2

## GRM0225C1E3R3BA03L
designator C?, comment 3.3pF
CAP CER 3.3PF 25V C0G/NP0 01005; Part Number: GRM0225C1E3R3BA03L; Manufacturer: Murata Electronics; Temperature Coefficient: C0G, NP0; Tolerance: ±0.1pF; Value: 3.3pF; Applications: General Purpose; Capacitance: 3.3pF; ComponentLink1Description: Datasheet; ComponentLink1URL: https://search.murata.co.jp/Ceramy/image/img/A01X/G101/ENG/GRM0225C1E3R3BA03-01.pdf; ComponentLink2Description: DigiKey Link; ComponentLink2URL: http://digikey.com/product-detail/en/murata-electronics/GRM0225C1E3R3BA03L/490-13543-1-ND/6048285; Device Package: 01005 (0402 Metric); LastUpdated: 9/2/2020 1:27:44 AM; Lifecycle Status: Active; Minimum Order: 1; Mounting Type: Surface Mount, MLCC; Operating Temperature: -55°C ~ 125°C; Package / Case: 01005 (0402 Metric); Packaging: TapeAndReel; Part Status: Active; Price: 0.01; Series: GRM; Size / Dimension: 0.016" L x 0.008" W (0.40mm x 0.20mm); Supplier 1: DigiKey; Supplier Part Number 1: 490-13543-1-ND; Thickness (Max): 0.009" (0.22mm); Voltage - Rated: 25V
footprint CAP 01005_0402
pins: 1, 2

## GRM0225C1E3R3CA03L
designator C?, comment 3.3pF
CAP CER 3.3PF 25V C0G/NP0 01005; Part Number: GRM0225C1E3R3CA03L; Manufacturer: Murata Electronics; Temperature Coefficient: C0G, NP0; Tolerance: ±0.25pF; Value: 3.3pF; Applications: General Purpose; Capacitance: 3.3pF; ComponentLink1Description: Datasheet; ComponentLink1URL: https://search.murata.co.jp/Ceramy/image/img/A01X/G101/ENG/GRM0225C1E3R3CA03-01.pdf; ComponentLink2Description: DigiKey Link; ComponentLink2URL: http://digikey.com/product-detail/en/murata-electronics/GRM0225C1E3R3CA03L/490-13544-1-ND/6048286; Device Package: 01005 (0402 Metric); LastUpdated: 9/2/2020 1:27:44 AM; Lifecycle Status: Active; Minimum Order: 1; Mounting Type: Surface Mount, MLCC; Operating Temperature: -55°C ~ 125°C; Package / Case: 01005 (0402 Metric); Packaging: TapeAndReel; Part Status: Active; Price: 0.01; Series: GRM; Size / Dimension: 0.016" L x 0.008" W (0.40mm x 0.20mm); Supplier 1: DigiKey; Supplier Part Number 1: 490-13544-1-ND; Thickness (Max): 0.009" (0.22mm); Voltage - Rated: 25V
footprint CAP 01005_0402
pins: 1, 2

## GRM0225C1E3R3WA03L
designator C?, comment 3.3pF
CAP CER 3.3PF 25V C0G/NP0 01005; Part Number: GRM0225C1E3R3WA03L; Manufacturer: Murata Electronics; Temperature Coefficient: C0G, NP0; Tolerance: ±0.05pF; Value: 3.3pF; Applications: General Purpose; Capacitance: 3.3pF; ComponentLink1Description: Datasheet; ComponentLink1URL: https://search.murata.co.jp/Ceramy/image/img/A01X/G101/ENG/GRM0225C1E3R3WA03-01.pdf; ComponentLink2Description: DigiKey Link; ComponentLink2URL: http://digikey.com/product-detail/en/murata-electronics/GRM0225C1E3R3WA03L/490-13545-1-ND/6048287; Device Package: 01005 (0402 Metric); LastUpdated: 9/2/2020 1:27:42 AM; Lifecycle Status: Active; Minimum Order: 1; Mounting Type: Surface Mount, MLCC; Operating Temperature: -55°C ~ 125°C; Package / Case: 01005 (0402 Metric); Packaging: TapeAndReel; Part Status: Active; Price: 0.02; Series: GRM; Size / Dimension: 0.016" L x 0.008" W (0.40mm x 0.20mm); Supplier 1: DigiKey; Supplier Part Number 1: 490-13545-1-ND; Thickness (Max): 0.009" (0.22mm); Voltage - Rated: 25V
footprint CAP 01005_0402
pins: 1, 2

## GRM0225C1E3R4BA03L
designator C?, comment 3.4pF
CAP CER 3.4PF 25V C0G/NP0 01005; Part Number: GRM0225C1E3R4BA03L; Manufacturer: Murata Electronics; Temperature Coefficient: C0G, NP0; Tolerance: ±0.1pF; Value: 3.4pF; Applications: General Purpose; Capacitance: 3.4pF; ComponentLink1Description: Datasheet; ComponentLink1URL: https://search.murata.co.jp/Ceramy/image/img/A01X/G101/ENG/GRM0225C1E3R4BA03-01.pdf; ComponentLink2Description: DigiKey Link; ComponentLink2URL: http://digikey.com/product-detail/en/murata-electronics/GRM0225C1E3R4BA03L/490-13546-1-ND/6048288; Device Package: 01005 (0402 Metric); LastUpdated: 9/2/2020 1:27:44 AM; Lifecycle Status: Active; Minimum Order: 1; Mounting Type: Surface Mount, MLCC; Operating Temperature: -55°C ~ 125°C; Package / Case: 01005 (0402 Metric); Packaging: TapeAndReel; Part Status: Active; Price: 0.01; Series: GRM; Size / Dimension: 0.016" L x 0.008" W (0.40mm x 0.20mm); Supplier 1: DigiKey; Supplier Part Number 1: 490-13546-1-ND; Thickness (Max): 0.009" (0.22mm); Voltage - Rated: 25V
footprint CAP 01005_0402
pins: 1, 2

## GRM0225C1E3R4CA03L
designator C?, comment 3.4pF
CAP CER 3.4PF 25V C0G/NP0 01005; Part Number: GRM0225C1E3R4CA03L; Manufacturer: Murata Electronics; Temperature Coefficient: C0G, NP0; Tolerance: ±0.25pF; Value: 3.4pF; Applications: General Purpose; Capacitance: 3.4pF; ComponentLink1Description: Datasheet; ComponentLink1URL: https://search.murata.co.jp/Ceramy/image/img/A01X/G101/ENG/GRM0225C1E3R4CA03-01.pdf; ComponentLink2Description: DigiKey Link; ComponentLink2URL: http://digikey.com/product-detail/en/murata-electronics/GRM0225C1E3R4CA03L/490-13547-1-ND/6048289; Device Package: 01005 (0402 Metric); LastUpdated: 9/2/2020 1:27:44 AM; Lifecycle Status: Active; Minimum Order: 1; Mounting Type: Surface Mount, MLCC; Operating Temperature: -55°C ~ 125°C; Package / Case: 01005 (0402 Metric); Packaging: TapeAndReel; Part Status: Active; Price: 0.01; Series: GRM; Size / Dimension: 0.016" L x 0.008" W (0.40mm x 0.20mm); Supplier 1: DigiKey; Supplier Part Number 1: 490-13547-1-ND; Thickness (Max): 0.009" (0.22mm); Voltage - Rated: 25V
footprint CAP 01005_0402
pins: 1, 2

## GRM0225C1E3R4WA03L
designator C?, comment 3.4pF
CAP CER 3.4PF 25V C0G/NP0 01005; Part Number: GRM0225C1E3R4WA03L; Manufacturer: Murata Electronics; Temperature Coefficient: C0G, NP0; Tolerance: ±0.05pF; Value: 3.4pF; Applications: General Purpose; Capacitance: 3.4pF; ComponentLink1Description: Datasheet; ComponentLink1URL: https://www.murata.com/~/media/webrenewal/support/library/catalog/products/capacitor/mlcc/c02e.ashx?la=en-us; ComponentLink2Description: DigiKey Link; ComponentLink2URL: http://digikey.com/product-detail/en/murata-electronics/GRM0225C1E3R4WA03L/490-13548-1-ND/6048290; Device Package: 01005 (0402 Metric); LastUpdated: 9/2/2020 1:27:42 AM; Lifecycle Status: Active; Minimum Order: 1; Mounting Type: Surface Mount, MLCC; Operating Temperature: -55°C ~ 125°C; Package / Case: 01005 (0402 Metric); Packaging: TapeAndReel; Part Status: Active; Price: 0.02; Series: GRM; Size / Dimension: 0.016" L x 0.008" W (0.40mm x 0.20mm); Supplier 1: DigiKey; Supplier Part Number 1: 490-13548-1-ND; Thickness (Max): 0.009" (0.22mm); Voltage - Rated: 25V
footprint CAP 01005_0402
pins: 1, 2

## GRM0225C1E3R5BA03L
designator C?, comment 3.5pF
CAP CER 3.5PF 25V C0G/NP0 01005; Part Number: GRM0225C1E3R5BA03L; Manufacturer: Murata Electronics; Temperature Coefficient: C0G, NP0; Tolerance: ±0.1pF; Value: 3.5pF; Applications: General Purpose; Capacitance: 3.5pF; ComponentLink1Description: Datasheet; ComponentLink1URL: https://www.murata.com/~/media/webrenewal/support/library/catalog/products/capacitor/mlcc/c02e.ashx?la=en-us; ComponentLink2Description: DigiKey Link; ComponentLink2URL: http://digikey.com/product-detail/en/murata-electronics/GRM0225C1E3R5BA03L/490-13549-1-ND/6048291; Device Package: 01005 (0402 Metric); LastUpdated: 9/2/2020 1:27:44 AM; Lifecycle Status: Active; Minimum Order: 1; Mounting Type: Surface Mount, MLCC; Operating Temperature: -55°C ~ 125°C; Package / Case: 01005 (0402 Metric); Packaging: TapeAndReel; Part Status: Active; Price: 0.01; Series: GRM; Size / Dimension: 0.016" L x 0.008" W (0.40mm x 0.20mm); Supplier 1: DigiKey; Supplier Part Number 1: 490-13549-1-ND; Thickness (Max): 0.009" (0.22mm); Voltage - Rated: 25V
footprint CAP 01005_0402
pins: 1, 2

## GRM0225C1E3R5CA03L
designator C?, comment 3.5pF
CAP CER 3.5PF 25V C0G/NP0 01005; Part Number: GRM0225C1E3R5CA03L; Manufacturer: Murata Electronics; Temperature Coefficient: C0G, NP0; Tolerance: ±0.25pF; Value: 3.5pF; Applications: General Purpose; Capacitance: 3.5pF; ComponentLink1Description: Datasheet; ComponentLink1URL: https://search.murata.co.jp/Ceramy/image/img/A01X/G101/ENG/GRM0225C1E3R5CA03-01.pdf; ComponentLink2Description: DigiKey Link; ComponentLink2URL: http://digikey.com/product-detail/en/murata-electronics/GRM0225C1E3R5CA03L/490-13550-1-ND/6048292; Device Package: 01005 (0402 Metric); LastUpdated: 9/2/2020 1:27:44 AM; Lifecycle Status: Active; Minimum Order: 1; Mounting Type: Surface Mount, MLCC; Operating Temperature: -55°C ~ 125°C; Package / Case: 01005 (0402 Metric); Packaging: TapeAndReel; Part Status: Active; Price: 0.01; Series: GRM; Size / Dimension: 0.016" L x 0.008" W (0.40mm x 0.20mm); Supplier 1: DigiKey; Supplier Part Number 1: 490-13550-1-ND; Thickness (Max): 0.009" (0.22mm); Voltage - Rated: 25V
footprint CAP 01005_0402
pins: 1, 2

## GRM0225C1E3R5WA03L
designator C?, comment 3.5pF
CAP CER 3.5PF 25V C0G/NP0 01005; Part Number: GRM0225C1E3R5WA03L; Manufacturer: Murata Electronics; Temperature Coefficient: C0G, NP0; Tolerance: ±0.05pF; Value: 3.5pF; Applications: General Purpose; Capacitance: 3.5pF; ComponentLink1Description: Datasheet; ComponentLink1URL: https://www.murata.com/~/media/webrenewal/support/library/catalog/products/capacitor/mlcc/c02e.ashx?la=en-us; ComponentLink2Description: DigiKey Link; ComponentLink2URL: http://digikey.com/product-detail/en/murata-electronics/GRM0225C1E3R5WA03L/490-13551-1-ND/6048293; Device Package: 01005 (0402 Metric); LastUpdated: 9/2/2020 1:27:42 AM; Lifecycle Status: Active; Minimum Order: 1; Mounting Type: Surface Mount, MLCC; Operating Temperature: -55°C ~ 125°C; Package / Case: 01005 (0402 Metric); Packaging: TapeAndReel; Part Status: Active; Price: 0.02; Series: GRM; Size / Dimension: 0.016" L x 0.008" W (0.40mm x 0.20mm); Supplier 1: DigiKey; Supplier Part Number 1: 490-13551-1-ND; Thickness (Max): 0.009" (0.22mm); Voltage - Rated: 25V
footprint CAP 01005_0402
pins: 1, 2